# Altium integrated library ATWINC1500-MR210UB.IntLib: 1 symbol
Pins are listed as number, name and electrical type; pins without a type are passive.

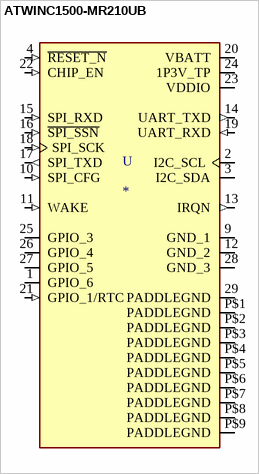
[diagram p0: symbol ATWINC1500-MR210UB]

## ATWINC1500-MR210UB
designator U
WiFi 802.11b/g/n Transceiver Module 2.4GHz Antenna Not Included, U.FL Surface Mount; MF: Microchip; MP: ATWINC1500-MR210UB; Price: None; Value: *; Package: Module Microchip; Availability: Unavailable; SnapEDA_Link: https://www.snapeda.com/parts/ATWINC1500-MR210UB/Microchip/view-part/1316148/?ref=snap
footprint MICROCHIP_ATWINC1500-MR210UB
pins: 1 GPIO_6 (io), 2 I2C_SCL (io), 3 I2C_SDA (io), 4 ~{RESET_N} (in), 9 GND_1 (power), 10 SPI_CFG (in), 11 WAKE (in), 12 GND_2 (power), 13 IRQN (out), 14 UART_TXD (out), 15 SPI_RXD (in), 16 ~{SPI_SSN} (in), 17 SPI_TXD (out), 18 SPI_SCK (in), 19 UART_RXD (in), 20 VBATT (power), 21 GPIO_1/RTC (in), 22 CHIP_EN (in), 23 VDDIO (power), 24 1P3V_TP (power), 25 GPIO_3 (io), 26 GPIO_4 (io), 27 GPIO_5 (io), 28 GND_3 (power), 29 PADDLEGND (power), P$1 PADDLEGND (power), P$2 PADDLEGND (power), P$3 PADDLEGND (power), P$4 PADDLEGND (power), P$5 PADDLEGND (power), P$6 PADDLEGND (power), P$7 PADDLEGND (power), P$8 PADDLEGND (power), P$9 PADDLEGND (power)